# EAGLE library part W65C02 (library crasbe)
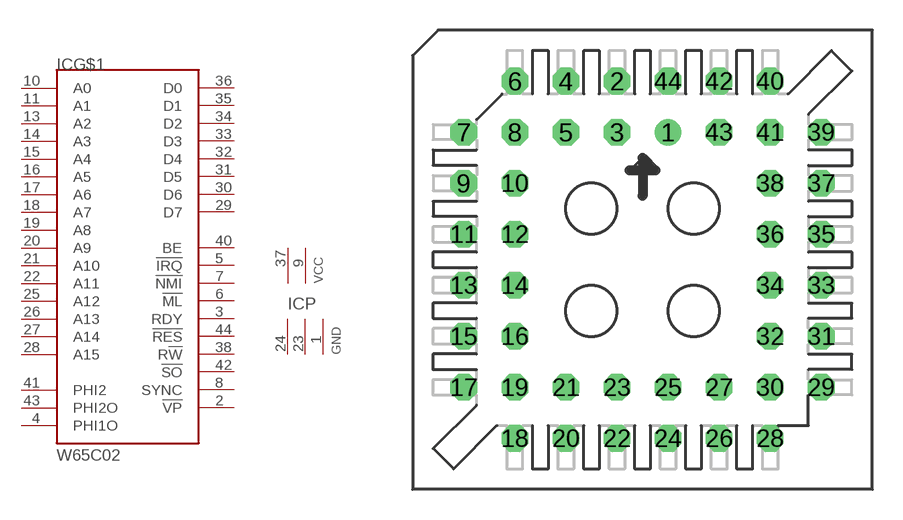
[diagram p31: symbol with the pads of PLCC-S44; footprint PLCC-S44]

Designator prefix IC; gates G$1=65C02 P=VCC2GND3

## W65C02S6TPLG-14  [PLCC-S44]
1  P:GND  pwr
2  G$1:!VP  out
3  G$1:RDY  in
4  G$1:PHI1O  out
5  G$1:!IRQ  in
6  G$1:!ML  out
7  G$1:!NMI  in
8  G$1:SYNC  out
9  P:VCC  pwr
10  G$1:A0  out
11  G$1:A1  out
13  G$1:A2  out
14  G$1:A3  out
15  G$1:A4  out
16  G$1:A5  out
17  G$1:A6  out
18  G$1:A7  out
19  G$1:A8  out
20  G$1:A9  out
21  G$1:A10  out
22  G$1:A11  out
23  P:GND  pwr
24  P:GND  pwr
25  G$1:A12  out
26  G$1:A13  out
27  G$1:A14  out
28  G$1:A15  out
29  G$1:D7
30  G$1:D6
31  G$1:D5
32  G$1:D4
33  G$1:D3
34  G$1:D2
35  G$1:D1
36  G$1:D0
37  P:VCC  pwr
38  G$1:R!W  out
40  G$1:BE  in
41  G$1:PHI2  out
42  G$1:!SO  in
43  G$1:PHI2O  out
44  G$1:!RES  in

## Footprint PLCC-S44 (pad centres in mm)
drill 0.813: 1 1.27,6.35
drill 0.813 octagon: 2 -1.27,8.89; 3 -1.27,6.35; 4 -3.81,8.89; 5 -3.81,6.35; 6 -6.35,8.89; 7 -8.89,6.35; 8 -6.35,6.35; 9 -8.89,3.81; 10 -6.35,3.81; 11 -8.89,1.27; 12 -6.35,1.27; 13 -8.89,-1.27; 14 -6.35,-1.27; 15 -8.89,-3.81; 16 -6.35,-3.81; 17 -8.89,-6.35; 18 -6.35,-8.89; 19 -6.35,-6.35; 20 -3.81,-8.89; 21 -3.81,-6.35; 22 -1.27,-8.89; 23 -1.27,-6.35; 24 1.27,-8.89; 25 1.27,-6.35; 26 3.81,-8.89; 27 3.81,-6.35; 28 6.35,-8.89; 29 8.89,-6.35; 30 6.35,-6.35; 31 8.89,-3.81; 32 6.35,-3.81; 33 8.89,-1.27; 34 6.35,-1.27; 35 8.89,1.27; 36 6.35,1.27; 37 8.89,3.81; 38 6.35,3.81; 39 8.89,6.35; 40 6.35,8.89; 41 6.35,6.35; 42 3.81,8.89; 43 3.81,6.35; 44 1.27,8.89